# Altium schematic symbol library SnapEDAsch.SchLib: 1 symbol
Pins are listed as number, name and electrical type; pins without a type are passive.

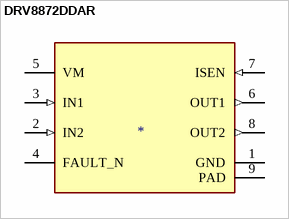
[diagram p0: symbol DRV8872DDAR]

## DRV8872DDAR
designator ?
Unipolar Motor Driver NMOS PWM 8-SO PowerPad; MP: DRV8872DDAR; MF: Texas Instruments; Price: None; Package: SO-8 Texas Instruments; Value: *; Availability: Unavailable; SnapEDA_Link: https://www.snapeda.com/parts/DRV8872DDAR/Texas%20Instruments/view-part/561864/?ref=snap
footprint DDA0008H_N
pins: 1 GND (power), 2 IN2 (in), 3 IN1 (in), 4 FAULT_N (oc), 5 VM (power), 6 OUT1 (out), 7 ISEN (in), 8 OUT2 (out), 9 PAD (power)